# Altium footprint library MY_LIB.PcbLib: 129 footprints (part 4 of 9)
Each footprint in its own frame and in the unit in brackets; x right, y up, seen from the top. Pads: shape width x height; smd on the part's side, far side on the other; paste and mask are expansions set on the pad; w line width, h text height; cw(c..) or ccw(c..) is an arc to the next point about the centre after c.
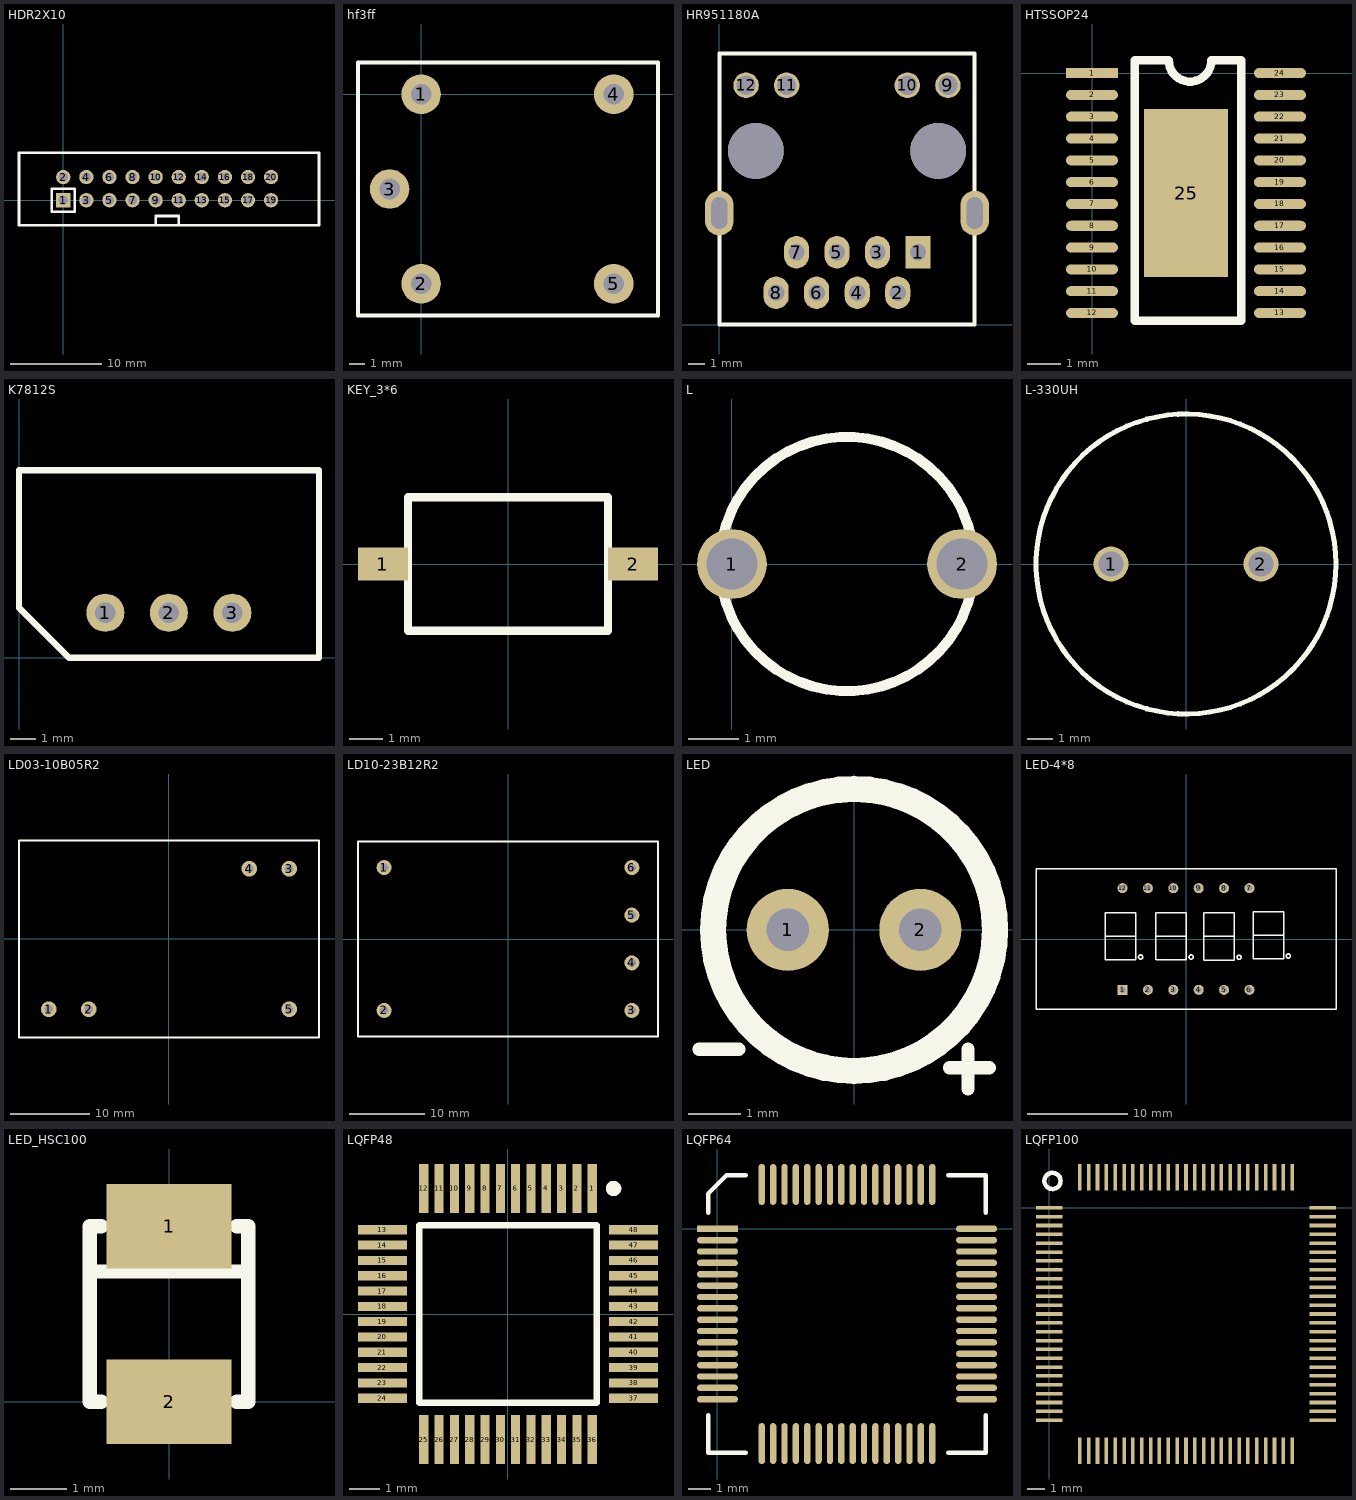
[diagram p3: the footprints below, top view; thin cyan lines are the x and y axes]

## HDR2X10 [mil]
pads (20):
  rect 62x62 hole 40: 1(0,0)
  round 62 hole 40: 2(0,100) 3(100,0) 4(100,100) 5(200,0) 6(200,100) 7(300,0) 8(300,100) 9(400,0) 10(400,100) 11(500,0) 12(500,100) 13(600,0) 14(600,100) 15(700,0) 16(700,100) 17(800,0) 18(800,100) 19(900,0) 20(900,100)
Top Overlay:
  lines w12: 400,-109.06 400,-69 500,-69 500,-108.06 ; -191.73,-109.06 1107.48,-109.06 1107.48,205.91 -191.73,205.91 -191.73,-109.06 ; -50,-50 50,-50 50,50 -50,50 -50,-50

## hf3ff [mm]
pads (5):
  round 2.5 hole 1.3: 1(0,0) 2(0,-12) 3(-2,-6) 4(12.2,0) 5(12.2,-12)
Top Overlay:
  lines w0.254: -4,-14 15,-14 15,2 -4,2 -4,-14

## HR951180A [mm]
pads (16):
  rect 1.575x2.032 hole 1.016: 1(12.45,4.54)
  oval 1.575x2.032 hole 1.016: 2(11.18,2) 3(9.91,4.54) 4(8.64,2) 5(7.37,4.54) 6(6.1,2) 7(4.83,4.54) 8(3.56,2)
  round 1.6 hole 1.2: 9(14.325,15) 10(11.785,15) 11(4.215,15) 12(1.675,15)
  oval 1.8x2.8 hole 1 slot 2 at 90 deg: ""(0,6.99) ""(16,6.99)
  round 3.5 hole 3.5: ""(2.285,10.89) ""(13.715,10.89)
Top Overlay:
  lines w0.254: 0,0 0,17 16,17 16,0 0,0

## HTSSOP24 [mm]
pads (25):
  rect 1.55x0.3 smd: 1(0,0)
  oval 1.55x0.3 smd: 2(0,-0.65) 3(0,-1.3) 4(0,-1.95) 5(0,-2.6) 6(0,-3.25) 7(0,-3.9) 8(0,-4.55) 9(0,-5.2) 10(0,-5.85) 11(0,-6.5) 12(0,-7.15) 13(5.6,-7.15) 14(5.6,-6.5) 15(5.6,-5.85) 16(5.6,-5.2) 17(5.6,-4.55) 18(5.6,-3.9) 19(5.6,-3.25) 20(5.6,-2.6) 21(5.6,-1.95) 22(5.6,-1.3) 23(5.6,-0.65) 24(5.6,0)
  rect 2.5x5 smd: 25(2.8,-3.575)
Top Overlay:
  lines w0.254: 1.27,-7.385 4.445,-7.385 4.445,0.381 3.556,0.381 cw(c2.921,0.381) 2.286,0.381 1.27,0.381 1.27,-7.385

## K7812S [mil]
pads (3):
  round 60 hole 32: 1(136,70.87) 2(236,70.87) 3(336,70.87)
Top Overlay:
  lines w10: 0,78.74 78.74,0 472.44,0 472.44,295.28 0,295.28 0,78.74

## KEY_3*6 [mm]
pads (2):
  rect 1.5x1 smd: 1(-3.75,0) 2(3.75,0)
Top Overlay:
  lines w0.254: -3,-2 3,-2 3,2 -3,2 -3,-2

## L [mil]
pads (2):
  round 55 hole 40: 1(0,0) 2(181.1,0)
Top Overlay:
  circle w8: c90.55,0 r100

## L-330UH [mil]
pads (2):
  round 55 hole 40: 1(-118.11,0) 2(118.11,0)
Top Overlay:
  circle w8: c0,0 r236.22

## LD03-10B05R2 [mm]
pads (5):
  round 2 hole 1.1: 1(-15.24,-8.89) 2(-10.16,-8.89) 3(15.24,8.89) 4(10.16,8.89) 5(15.24,-8.89)
Top Overlay:
  lines w0.254: -19,-12.505 -19,12.495 19,12.495 19,-12.505 -19,-12.505

## LD10-23B12R2 [mm]
pads (6):
  round 2 hole 1.1: 1(-16.51,9.525) 2(-16.51,-9.525) 3(16.51,-9.525) 4(16.51,-3.175) 5(16.51,3.175) 6(16.51,9.525)
Top Overlay:
  lines w0.254: -20,-13 20,-13 20,13 -20,13 -20,-13

## LED [mil]
pads (2):
  round 62 hole 32: 1(-50,0) 2(50,0)
Top Overlay:
  circle w19.68: c0,0 r106.3
  lines w10: -117,-90 -87,-90 ; 72,-104 102,-104 ; 86,-120 86,-90

## LED-4*8 [mm]
pads (12):
  rect 1x1 hole 0.6: 1(-6.35,-5.08)
  round 1 hole 0.6: 2(-3.81,-5.08) 3(-1.27,-5.08) 4(1.27,-5.08) 5(3.81,-5.08) 6(6.35,-5.08) 7(6.35,5.08) 8(3.81,5.08) 9(1.27,5.08) 10(-1.27,5.08) 11(-3.81,5.08) 12(-6.35,5.08)
Top Overlay:
  circle w0.127: c-4.547,-1.803 r0.209
  circle w0.127: c0.508,-1.803 r0.209
  circle w0.127: c5.309,-1.829 r0.209
  circle w0.127: c10.236,-1.702 r0.209
  lines w0.127: -8.077,-2.083 -8.077,0.279 -8.077,2.642 -5.029,2.642 -5.029,0.279 ; -8.052,-2.083 -5.029,-2.083 -5.029,0.279 ; -8.052,0.279 -5.029,0.279 ; -3.023,-2.083 -3.023,0.279 -3.023,2.642 0.025,2.642 0.025,0.279 ; -2.997,-2.083 0.025,-2.083 0.025,0.279 ; -2.997,0.279 0.025,0.279 ; 1.778,-2.108 1.778,0.254 1.778,2.616 4.826,2.616 4.826,0.254 ; 1.803,-2.108 4.826,-2.108 4.826,0.254 ; 1.803,0.254 4.826,0.254 ; 6.706,-1.981 6.706,0.381 6.706,2.743 9.754,2.743 9.754,0.381 ; 6.731,-1.981 9.754,-1.981 9.754,0.381 ; 6.731,0.381 9.754,0.381 ; -15,-7 15,-7 15,7 -15,7 -15,-7

## LED_HSC100 [mm]
pads (2):
  rect 2.2x1.5 smd: 1(0,3.1) 2(0,0)
Top Overlay:
  lines w0.254: -1.4,2.3 1.4,2.3 ; -1.2,0 -1.4,0 -1.4,3.1 -1.2,3.1 ; 1.2,0 1.4,0 1.4,3.1 1.2,3.1

## LQFP48 [mm]
pads (48):
  rect 0.3x1.6 smd: 1(2.75,4.1) 2(2.25,4.1) 3(1.75,4.1) 4(1.25,4.1) 5(0.75,4.1) 6(0.25,4.1) 7(-0.25,4.1) 8(-0.75,4.1) 9(-1.25,4.1) 10(-1.75,4.1) 11(-2.25,4.1) 12(-2.75,4.1) 25(-2.75,-4.1) 26(-2.25,-4.1) 27(-1.75,-4.1) 28(-1.25,-4.1) 29(-0.75,-4.1) 30(-0.25,-4.1) 31(0.25,-4.1) 32(0.75,-4.1) 33(1.25,-4.1) 34(1.75,-4.1) 35(2.25,-4.1) 36(2.75,-4.1)
  rect 1.6x0.3 smd: 13(-4.1,2.75) 14(-4.1,2.25) 15(-4.1,1.75) 16(-4.1,1.25) 17(-4.1,0.75) 18(-4.1,0.25) 19(-4.1,-0.25) 20(-4.1,-0.75) 21(-4.1,-1.25) 22(-4.1,-1.75) 23(-4.1,-2.25) 24(-4.1,-2.75) 37(4.1,-2.75) 38(4.1,-2.25) 39(4.1,-1.75) 40(4.1,-1.25) 41(4.1,-0.75) 42(4.1,-0.25) 43(4.1,0.25) 44(4.1,0.75) 45(4.1,1.25) 46(4.1,1.75) 47(4.1,2.25) 48(4.1,2.75)
Top Overlay:
  circle w0.25: c3.45,4.1 r0.125
  lines w0.2: -2.9,-2.9 2.9,-2.9 2.9,2.9 -2.9,2.9 -2.9,-2.9

## LQFP64 [mm]
pads (64):
  rect 1.8x0.279 smd: 1(0,0)
  oval 1.8x0.279 smd: 2(0,-0.5) 3(0,-1) 4(0,-1.5) 5(0,-2) 6(0,-2.5) 7(0,-3) 8(0,-3.5) 9(0,-4) 10(0,-4.5) 11(0,-5) 12(0,-5.5) 13(0,-6) 14(0,-6.5) 15(0,-7) 16(0,-7.5) 33(11.4,-7.5) 34(11.4,-7) 35(11.4,-6.5) 36(11.4,-6) 37(11.4,-5.5) 38(11.4,-5) 39(11.4,-4.5) 40(11.4,-4) 41(11.4,-3.5) 42(11.4,-3) 43(11.4,-2.5) 44(11.4,-2) 45(11.4,-1.5) 46(11.4,-1) 47(11.4,-0.5) 48(11.4,0)
  oval 0.279x1.8 smd: 17(1.95,-9.45) 18(2.45,-9.45) 19(2.95,-9.45) 20(3.45,-9.45) 21(3.95,-9.45) 22(4.45,-9.45) 23(4.95,-9.45) 24(5.45,-9.45) 25(5.95,-9.45) 26(6.45,-9.45) 27(6.95,-9.45) 28(7.45,-9.45) 29(7.95,-9.45) 30(8.45,-9.45) 31(8.95,-9.45) 32(9.45,-9.45) 49(9.45,1.95) 50(8.95,1.95) 51(8.45,1.95) 52(7.95,1.95) 53(7.45,1.95) 54(6.95,1.95) 55(6.45,1.95) 56(5.95,1.95) 57(5.45,1.95) 58(4.95,1.95) 59(4.45,1.95) 60(3.95,1.95) 61(3.45,1.95) 62(2.95,1.95) 63(2.45,1.95) 64(1.95,1.95)
Top Overlay:
  lines w0.2: -0.4,-8.2 -0.4,-9.85 1.25,-9.85 ; -0.4,0.7 -0.4,1.55 0.4,2.35 1.25,2.35 ; 10.15,-9.85 11.8,-9.85 11.8,-8.2 ; 10.15,2.35 11.8,2.35 11.8,0.7

## LQFP100 [mm]
pads (100):
  rect 1.5x0.2 smd: 1(0,0) 2(0,-0.5) 3(0,-1) 4(0,-1.5) 5(0,-2) 6(0,-2.5) 7(0,-3) 8(0,-3.5) 9(0,-4) 10(0,-4.5) 11(0,-5) 12(0,-5.5) 13(0,-6) 14(0,-6.5) 15(0,-7) 16(0,-7.5) 17(0,-8) 18(0,-8.5) 19(0,-9) 20(0,-9.5) 21(0,-10) 22(0,-10.5) 23(0,-11) 24(0,-11.5) 25(0,-12) 51(15.45,-12) 52(15.45,-11.5) 53(15.45,-11) 54(15.45,-10.5) 55(15.45,-10) 56(15.45,-9.5) 57(15.45,-9) 58(15.45,-8.5) 59(15.45,-8) 60(15.45,-7.5) 61(15.45,-7) 62(15.45,-6.5) 63(15.45,-6) 64(15.45,-5.5) 65(15.45,-5) 66(15.45,-4.5) 67(15.45,-4) 68(15.45,-3.5) 69(15.45,-3) 70(15.45,-2.5) 71(15.45,-2) 72(15.45,-1.5) 73(15.45,-1) 74(15.45,-0.5) 75(15.45,0)
  rect 0.2x1.5 smd: 26(1.725,-13.725) 27(2.225,-13.725) 28(2.725,-13.725) 29(3.225,-13.725) 30(3.725,-13.725) 31(4.225,-13.725) 32(4.725,-13.725) 33(5.225,-13.725) 34(5.725,-13.725) 35(6.225,-13.725) 36(6.725,-13.725) 37(7.225,-13.725) 38(7.725,-13.725) 39(8.225,-13.725) 40(8.725,-13.725) 41(9.225,-13.725) 42(9.725,-13.725) 43(10.225,-13.725) 44(10.725,-13.725) 45(11.225,-13.725) 46(11.725,-13.725) 47(12.225,-13.725) 48(12.725,-13.725) 49(13.225,-13.725) 50(13.725,-13.725) 76(13.725,1.725) 77(13.225,1.725) 78(12.725,1.725) 79(12.225,1.725) 80(11.725,1.725) 81(11.225,1.725) 82(10.725,1.725) 83(10.225,1.725) 84(9.725,1.725) 85(9.225,1.725) 86(8.725,1.725) 87(8.225,1.725) 88(7.725,1.725) 89(7.225,1.725) 90(6.725,1.725) 91(6.225,1.725) 92(5.725,1.725) 93(5.225,1.725) 94(4.725,1.725) 95(4.225,1.725) 96(3.725,1.725) 97(3.225,1.725) 98(2.725,1.725) 99(2.225,1.725) 100(1.725,1.725)
Top Overlay:
  circle w0.254: c0.18,1.518 r0.458